# EAGLE library part ULN2003A (library SCARA)
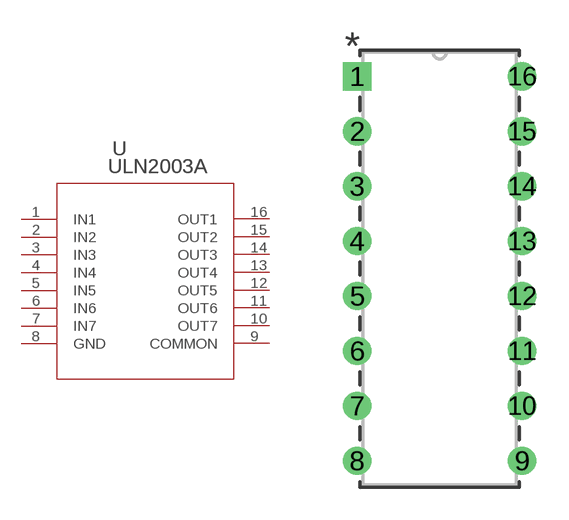
[diagram p2: symbol with the pads of DIP-16_STM; footprint DIP-16_STM]

Designator prefix U

## ULN2003A (BUILT_BY: EMA_UL_Team; MANUFACTURER_PART_NUMBER: ULN2003A; SOURCELIBRARY: Update_to_database_2020-12-04; VENDOR: STMicroelectronics)  [DIP-16_STM]
1  IN1  in
2  IN2  in
3  IN3  in
4  IN4  in
5  IN5  in
6  IN6  in
7  IN7  in
8  GND  pas
9  COMMON  pas
10  OUT7  out
11  OUT6  out
12  OUT5  out
13  OUT4  out
14  OUT3  out
15  OUT2  out
16  OUT1  out

## Footprint DIP-16_STM (pad centres in mm)
drill 0.8 pad 1.27 square: 1 0,0
drill 0.8 pad 1.27: 2 0,-2.54; 3 0,-5.08; 4 0,-7.62; 5 0,-10.16; 6 0,-12.7; 7 0,-15.24; 8 0,-17.78; 9 7.62,-17.78; 10 7.62,-15.24; 11 7.62,-12.7; 12 7.62,-10.16; 13 7.62,-7.62; 14 7.62,-5.08; 15 7.62,-2.54; 16 7.62,0